# EAGLE library part TMS320F28069 (library DSP)
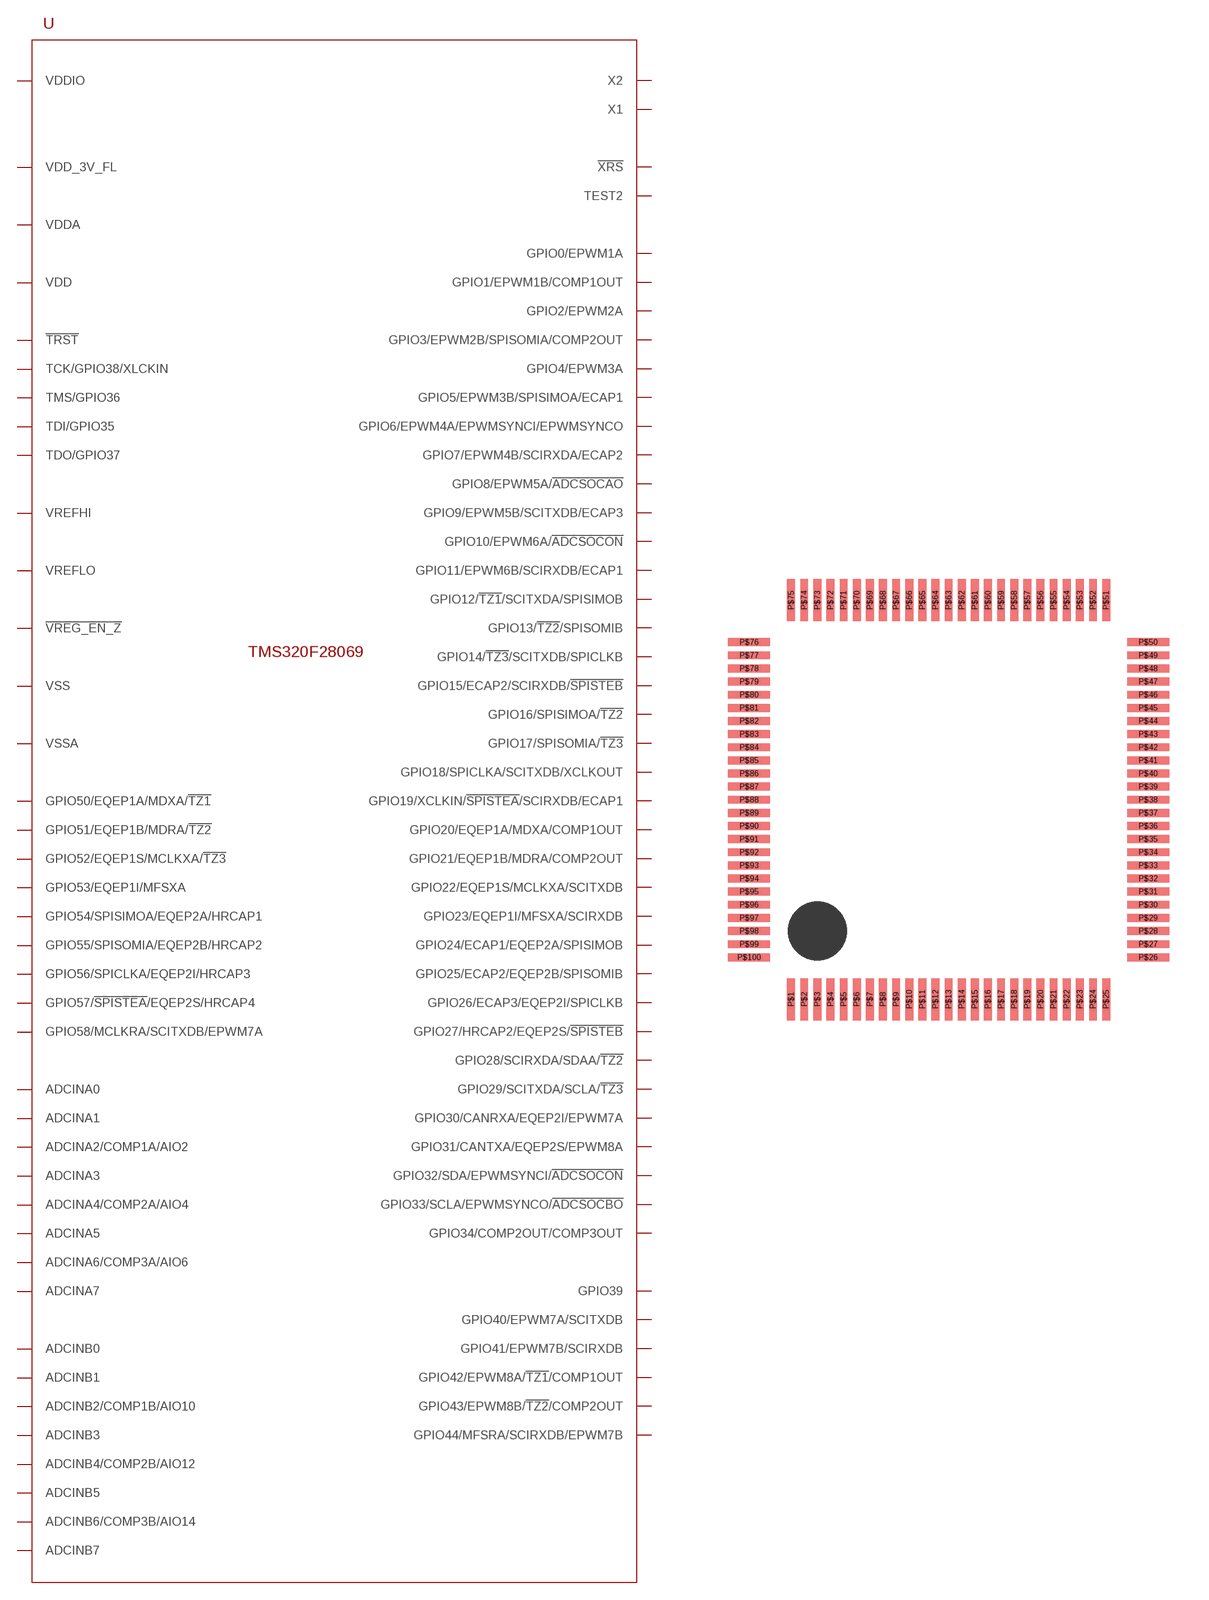
[diagram p3: symbol with the pads of LQFP-100; footprint LQFP-100]

Designator prefix U

## TMS320F28069/LQFP100  [LQFP-100]
P$1  GPIO42/EPWM8A/!TZ1!/COMP1OUT
P$2  GPIO23/EQEP1I/MFSXA/SCIRXDB
P$3  VDD
P$4  VSS
P$5  VDDIO
P$6  GPIO20/EQEP1A/MDXA/COMP1OUT
P$7  GPIO21/EQEP1B/MDRA/COMP2OUT
P$8  GPIO43/EPWM8B/!TZ2!/COMP2OUT
P$9  GPIO4/EPWM3A
P$10  GPIO5/EPWM3B/SPISIMOA/ECAP1
P$11  !XRS!
P$12  !TRST!
P$13  VDDIO
P$14  VDD
P$15  VSS
P$16  ADCINA7
P$17  ADCINA6/COMP3A/AIO6
P$18  ADCINA5
P$19  ADCINA4/COMP2A/AIO4
P$20  ADCINA3
P$21  ADCINA2/COMP1A/AIO2
P$22  ADCINA1
P$23  ADCINA0
P$24  VREFHI
P$25  VDDA
P$26  VSSA
P$27  VREFLO
P$28  ADCINB0
P$29  ADCINB1
P$30  ADCINB2/COMP1B/AIO10
P$31  ADCINB3
P$32  ADCINB4/COMP2B/AIO12
P$33  ADCINB5
P$34  ADCINB6/COMP3B/AIO14
P$35  ADCINB7
P$36  VSS
P$37  VDD
P$38  VDDIO
P$39  GPIO25/ECAP2/EQEP2B/SPISOMIB
P$40  GPIO31/CANTXA/EQEP2S/EPWM8A
P$41  GPIO30/CANRXA/EQEP2I/EPWM7A
P$42  GPIO50/EQEP1A/MDXA/!TZ1!
P$43  GPIO29/SCITXDA/SCLA/!TZ3!
P$44  GPIO12/!TZ1!/SCITXDA/SPISIMOB
P$45  TEST2
P$46  VDD_3V_FL
P$47  VSS
P$48  GPIO51/EQEP1B/MDRA/!TZ2!
P$49  GPIO9/EPWM5B/SCITXDB/ECAP3
P$50  GPIO28/SCIRXDA/SDAA/!TZ2!
P$51  GPIO18/SPICLKA/SCITXDB/XCLKOUT
P$52  GPIO17/SPISOMIA/!TZ3!
P$53  GPIO52/EQEP1S/MCLKXA/!TZ3!
P$54  GPIO8/EPWM5A/!ADCSOCAO!
P$55  GPIO16/SPISIMOA/!TZ2!
P$56  GPIO44/MFSRA/SCIRXDB/EPWM7B
P$57  GPIO7/EPWM4B/SCIRXDA/ECAP2
P$58  GPIO6/EPWM4A/EPWMSYNCI/EPWMSYNCO
P$59  X2
P$60  X1
P$61  VDDIO
P$62  VSS
P$63  VDD
P$64  GPIO19/XCLKIN/!SPISTEA!/SCIRXDB/ECAP1
P$65  GPIO53/EQEP1I/MFSXA
P$66  GPIO39
P$67  TCK/GPIO38/XLCKIN
P$68  GPIO34/COMP2OUT/COMP3OUT
P$69  GPIO54/SPISIMOA/EQEP2A/HRCAP1
P$70  TDO/GPIO37
P$71  TDI/GPIO35
P$72  TMS/GPIO36
P$73  GPIO11/EPWM6B/SCIRXDB/ECAP1
P$74  GPIO10/EPWM6A/!ADCSOCON!
P$75  GPIO55/SPISOMIA/EQEP2B/HRCAP2
P$76  GPIO41/EPWM7B/SCIRXDB
P$77  GPIO27/HRCAP2/EQEP2S/!SPISTEB!
P$78  GPIO26/ECAP3/EQEP2I/SPICLKB
P$79  VDDIO
P$80  VSS
P$81  VDD
P$82  GPIO40/EPWM7A/SCITXDB
P$83  GPIO3/EPWM2B/SPISOMIA/COMP2OUT
P$84  GPIO2/EPWM2A
P$85  GPIO56/SPICLKA/EQEP2I/HRCAP3
P$86  GPIO1/EPWM1B/COMP1OUT
P$87  GPIO0/EPWM1A
P$88  GPIO15/ECAP2/SCIRXDB/!SPISTEB!
P$89  GPIO57/!SPISTEA!/EQEP2S/HRCAP4
P$90  !VREG_EN_Z!
P$91  VDD
P$92  VSS
P$93  VDDIO
P$94  GPIO58/MCLKRA/SCITXDB/EPWM7A
P$95  GPIO13/!TZ2!/SPISOMIB
P$96  GPIO14/!TZ3!/SCITXDB/SPICLKB
P$97  GPIO24/ECAP1/EQEP2A/SPISIMOB
P$98  GPIO22/EQEP1S/MCLKXA/SCITXDB
P$99  GPIO32/SDA/EPWMSYNCI/!ADCSOCON!
P$100  GPIO33/SCLA/EPWMSYNCO/!ADCSOCBO!

## Footprint LQFP-100 (pad centres in mm)
smd 0.3 x 1.6: P$1 -6,-7.6; P$2 -5.5,-7.6; P$3 -5,-7.6; P$4 -4.5,-7.6; P$5 -4,-7.6; P$6 -3.5,-7.6; P$7 -3,-7.6; P$8 -2.5,-7.6; P$9 -2,-7.6; P$10 -1.5,-7.6; P$11 -1,-7.6; P$12 -0.5,-7.6; P$13 0,-7.6; P$14 0.5,-7.6; P$15 1,-7.6; P$16 1.5,-7.6; P$17 2,-7.6; P$18 2.5,-7.6; P$19 3,-7.6; P$20 3.5,-7.6; P$21 4,-7.6; P$22 4.5,-7.6; P$23 5,-7.6; P$24 5.5,-7.6; P$25 6,-7.6; P$51 6,7.6; P$52 5.5,7.6; P$53 5,7.6; P$54 4.5,7.6; P$55 4,7.6; P$56 3.5,7.6; P$57 3,7.6; P$58 2.5,7.6; P$59 2,7.6; P$60 1.5,7.6; P$61 1,7.6; P$62 0.5,7.6; P$63 0,7.6; P$64 -0.5,7.6; P$65 -1,7.6; P$66 -1.5,7.6; P$67 -2,7.6; P$68 -2.5,7.6; P$69 -3,7.6; P$70 -3.5,7.6; P$71 -4,7.6; P$72 -4.5,7.6; P$73 -5,7.6; P$74 -5.5,7.6; P$75 -6,7.6
smd 1.6 x 0.3: P$26 7.6,-6; P$27 7.6,-5.5; P$28 7.6,-5; P$29 7.6,-4.5; P$30 7.6,-4; P$31 7.6,-3.5; P$32 7.6,-3; P$33 7.6,-2.5; P$34 7.6,-2; P$35 7.6,-1.5; P$36 7.6,-1; P$37 7.6,-0.5; P$38 7.6,0; P$39 7.6,0.5; P$40 7.6,1; P$41 7.6,1.5; P$42 7.6,2; P$43 7.6,2.5; P$44 7.6,3; P$45 7.6,3.5; P$46 7.6,4; P$47 7.6,4.5; P$48 7.6,5; P$49 7.6,5.5; P$50 7.6,6; P$76 -7.6,6; P$77 -7.6,5.5; P$78 -7.6,5; P$79 -7.6,4.5; P$80 -7.6,4; P$81 -7.6,3.5; P$82 -7.6,3; P$83 -7.6,2.5; P$84 -7.6,2; P$85 -7.6,1.5; P$86 -7.6,1; P$87 -7.6,0.5; P$88 -7.6,0; P$89 -7.6,-0.5; P$90 -7.6,-1; P$91 -7.6,-1.5; P$92 -7.6,-2; P$93 -7.6,-2.5; P$94 -7.6,-3; P$95 -7.6,-3.5; P$96 -7.6,-4; P$97 -7.6,-4.5; P$98 -7.6,-5; P$99 -7.6,-5.5; P$100 -7.6,-6